# Altium schematic symbol library NUCLEO-F756ZG.SchLib: 1 symbol
Pins are listed as number, name and electrical type; pins without a type are passive.

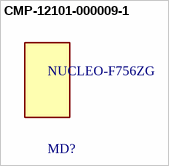
[diagram p0: symbol CMP-12101-000009-1]

## CMP-12101-000009-1
designator MD?, comment NUCLEO-F756ZG
STM32 NUCLEO-144 DEVELOPMENT BOA
footprint FP-NUCLEO-F756ZG-MFG